# Altium footprint library czc.PcbLib: 157 footprints (part 1 of 10)
Each footprint in its own frame and in the unit in brackets; x right, y up, seen from the top. Pads: shape width x height; smd on the part's side, far side on the other; paste and mask are expansions set on the pad; w line width, h text height; cw(c..) or ccw(c..) is an arc to the next point about the centre after c.
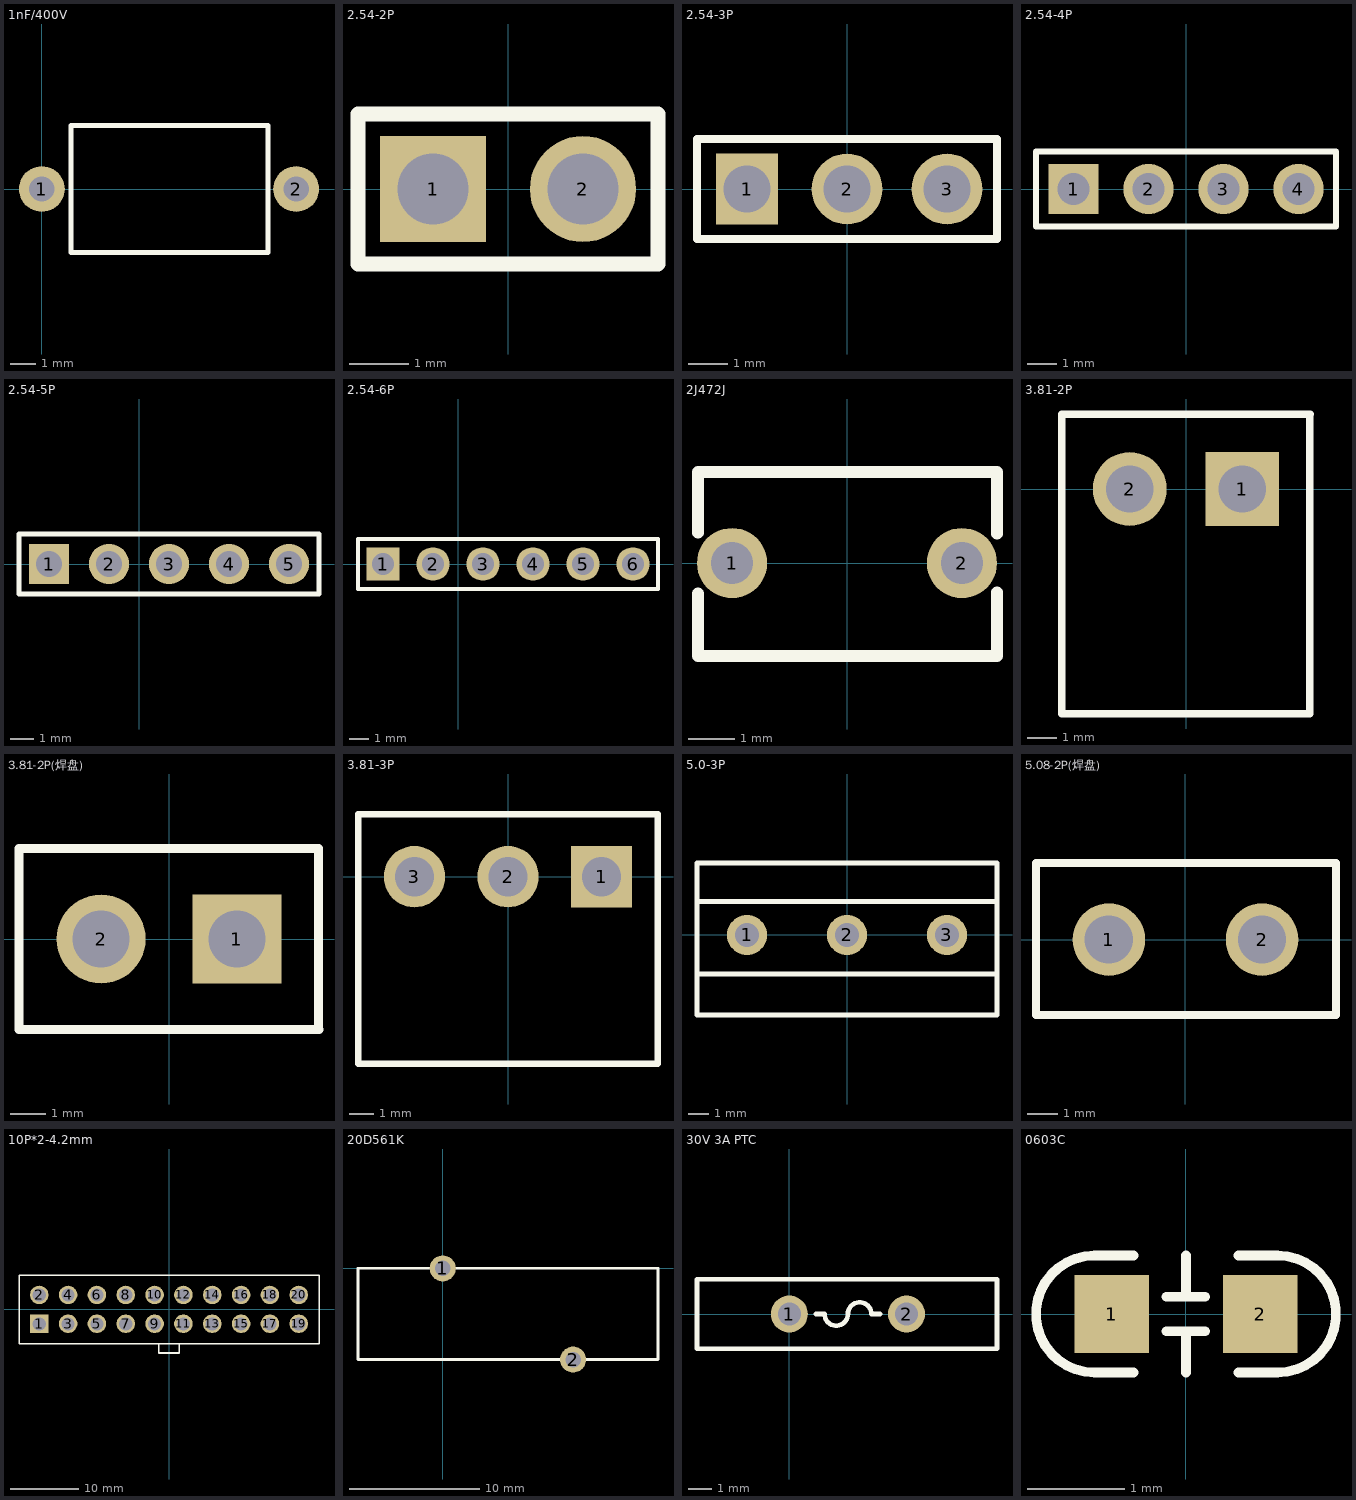
[diagram p0: the footprints below, top view; thin cyan lines are the x and y axes]

## 1nF/400V [mm]
pads (2):
  round 1.8 hole 1: 1(0,0) 2(10,0)
Top Overlay:
  lines w0.203: 1.143,-2.5 1.143,2.5 8.89,2.5 8.89,-2.5 1.143,-2.5

## 2.54-2P [mm]
pads (2):
  rect 1.8x1.8 hole 1.2: 1(-1.27,0)
  round 1.8 hole 1.2: 2(1.27,0)
Top Overlay:
  lines w0.254: -2.54,-1.27 2.54,-1.27 2.54,1.27 -2.54,1.27 -2.54,-1.27

## 2.54-3P [mm]
pads (3):
  rect 1.575x1.8 hole 1.2: 1(-2.54,0)
  round 1.8 hole 1.2: 2(0,0) 3(2.54,0)
Top Overlay:
  lines w0.203: -3.81,-1.27 3.81,-1.27 3.81,1.27 -1.905,1.27 -3.81,1.27 -3.81,-1.27

## 2.54-4P [mm]
pads (4):
  rect 1.7x1.7 hole 1.1: 1(-3.81,0)
  round 1.7 hole 1.1: 2(-1.27,0) 3(1.27,0) 4(3.81,0)
Top Overlay:
  lines w0.203: -5.08,-1.27 5.08,-1.27 5.08,1.27 -3.175,1.27 -5.08,1.27 -5.08,-1.27

## 2.54-5P [mm]
pads (5):
  rect 1.7x1.7 hole 1.1: 1(-3.81,0)
  round 1.7 hole 1.1: 2(-1.27,0) 3(1.27,0) 4(3.81,0) 5(6.35,0)
Top Overlay:
  lines w0.203: -5.08,-1.27 -5.08,1.27 -3.175,1.27 7.62,1.27 7.62,-1.27 -5.08,-1.27

## 2.54-6P [mm]
pads (6):
  rect 1.7x1.7 hole 1.1: 1(-3.81,0)
  round 1.7 hole 1.1: 2(-1.27,0) 3(1.27,0) 4(3.81,0) 5(6.35,0) 6(8.89,0)
Top Overlay:
  lines w0.203: -5.08,-1.27 -5.08,1.27 -3.175,1.27 10.16,1.27 10.16,-1.27 -5.08,-1.27

## 2J472J [mil]
pads (2):
  round 60 hole 36: 1(-98.4,0) 2(98.4,0)
Top Overlay:
  lines w10: -127.56,-26 -127.56,-79.53 128.35,-79.53 128.35,-25.08 ; -127.56,26 -127.56,77.95 128.35,77.95 128.35,25.08

## 3.81-2P [mm]
pads (2):
  rect 2.5x2.5 hole 1.6: 1(1.905,0)
  round 2.5 hole 1.6: 2(-1.905,0)
Top Overlay:
  lines w0.254: 4.191,2.54 4.191,-7.62 -4.205,-7.62 -4.205,2.54 4.205,2.54

## 3.81-2P(焊盘) [mm]
pads (2):
  rect 2.5x2.5 hole 1.6: 1(1.905,0)
  round 2.5 hole 1.6: 2(-1.905,0)
Top Overlay:
  lines w0.254: 4.191,-2.54 4.191,2.54 -4.205,2.54 -4.205,-2.54 4.205,-2.54

## 3.81-3P [mm]
pads (3):
  rect 2.5x2.5 hole 1.6: 1(3.81,0)
  round 2.5 hole 1.6: 2(0,0) 3(-3.81,0)
Top Overlay:
  lines w0.254: -6.11,2.54 6.11,2.54 ; -6.096,2.54 -6.096,-7.62 6.096,-7.62 6.096,2.54

## 5.0-3P [mm]
pads (3):
  round 2 hole 1.2: 1(-5,0) 2(0,0) 3(5,0)
Top Overlay:
  lines w0.254: -7.5,-1.947 7.5,-1.947 ; -7.5,1.677 7.5,1.677 ; -7.5,-4 7.5,-4 7.5,3.6 -7.5,3.6 -7.5,-4

## 5.08-2P(焊盘) [mm]
pads (2):
  round 2.4 hole 1.6: 1(-2.54,0) 2(2.54,0)
Top Overlay:
  lines w0.254: 4.99,-2.503 -4.956,-2.503 -4.956,2.54 4.99,2.54 ; 4.99,-2.413 4.99,2.487

## 10P*2-4.2mm [mm] "3.81-10P"
pads (20):
  rect 2.7x2.7 hole 1.9: 1(-18.9,-2.1)
  round 2.7 hole 1.9: 2(-18.9,2.1) 3(-14.7,-2.1) 4(-14.7,2.1) 5(-10.5,-2.1) 6(-10.5,2.1) 7(-6.3,-2.1) 8(-6.3,2.1) 9(-2.1,-2.1) 10(-2.1,2.1) 11(2.1,-2.1) 12(2.1,2.1) 13(6.3,-2.1) 14(6.3,2.1) 15(10.5,-2.1) 16(10.5,2.1) 17(14.7,-2.1) 18(14.7,2.1) 19(18.9,-2.1) 20(18.9,2.1)
Top Overlay:
  lines w0.203: -21.85,-5 21.85,-5 21.85,5 -21.85,5 -21.85,-5
  lines w0.254: -1.5,-5 -1.5,-6.35 1.5,-6.35 1.5,-5

## 20D561K [mm]
pads (2):
  round 2 hole 1.2: 1(0,0) 2(10,-7)
Top Overlay:
  lines w0.203: -6.5,-6.985 16.51,-6.985 16.51,0 -6.5,0 -6.5,-6.985

## 30V 3A PTC [mm] "P=5.08mm"
pads (2):
  round 1.6 hole 1: 1(0,0) 2(5.08,0)
Top Overlay:
  lines w0.203: 1.143,0 1.524,0 ccw(c2.032,0) 2.54,0 cw(c3.048,0) 3.556,0 3.937,0 ; -4,-1.5 -4,1.5 9,1.5 9,-1.5 -4,-1.5

## 0603C [mil]
pads (2):
  rect 30x31.5 smd: 1(-30,0) 2(30,0)
Top Overlay:
  lines w3.94: -21.18,-23.62 -36.93,-23.62 cw(c-36.93,0) -36.93,23.62 -21.18,23.62 ; -8,-7 7.75,-7 ; -8,7 7.75,7 ; 0,-23.62 0,-7.87 ; 0,7.87 0,23.62 ; 21.18,-23.62 36.93,-23.62 ccw(c36.93,0) 36.93,23.62 21.18,23.62
3D body "0603 SMD Capacitor.STEP": height 11.89, standoff 0, extent -31.49,-15.74 31.51,15.75